# Altium footprint library JST_S2B-PH-SM4-TB(LF)(SN).PcbLib: 1 footprints
Each footprint in its own frame and in the unit in brackets; x right, y up, seen from the top. Pads: shape width x height; smd on the part's side, far side on the other; paste and mask are expansions set on the pad; w line width, h text height; cw(c..) or ccw(c..) is an arc to the next point about the centre after c.
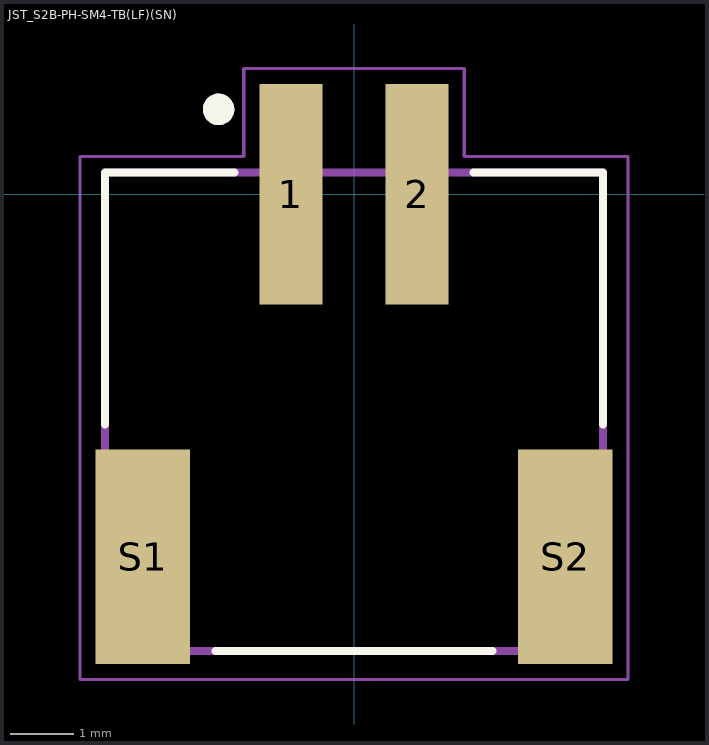
[diagram p0: the footprint, top view; thin cyan lines are the x and y axes]

## JST_S2B-PH-SM4-TB(LF)(SN) [mm]
pads (4):
  rect 1x3.5 smd: 1(-1,0) 2(1,0)
  rect 1.5x3.4 smd: S1(-3.35,-5.75) S2(3.35,-5.75)
Top Overlay:
  circle w0.3: c-2.15,1.35 r0.1
  lines w0.127: -3.95,-3.65 -3.95,0.35 -1.9,0.35 ; -2.2,-7.25 2.2,-7.25 ; 1.9,0.35 3.95,0.35 3.95,-3.65
Mechanical 13:
  circle w0.3: c-2.15,1.35 r0.1
  lines w0.127: -3.95,-7.25 3.95,-7.25 3.95,0.35 -3.95,0.35 -3.95,-7.25
Mechanical 15:
  lines w0.05: -4.35,-7.7 4.35,-7.7 4.35,0.6 1.75,0.6 1.75,2 -1.75,2 -1.75,0.6 -4.35,0.6 -4.35,-7.7
3D body "step_temp.STEP": height 5.5, standoff -0.1, extent -3.95,0 3.95,8.6